# Altium schematic symbol library KAE01LAGT.SchLib: 1 symbol
Pins are listed as number, name and electrical type; pins without a type are passive.

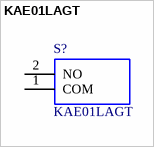
[diagram p0: symbol KAE01LAGT]

## KAE01LAGT
designator S?
DIP Switches / SIP Switches 1 Position Extended Splayed; Manufacturer_Name: E-Switch; Geometry.Height: 4.3mm; Manufacturer_Part_Number: KAE01LAGT; Mouser Part Number: 612-KAE01LAGT; Mouser Price/Stock: https://www.mouser.co.uk/ProductDetail/E-Switch/KAE01LAGT?qs=SzBv7bwNlX0qcv0wa6KvOw%3D%3D; Arrow Part Number: *; Arrow Price/Stock: *; Mouser Testing Part Number: *; Mouser Testing Price/Stock: *; Datasheet Link: http://spec_sheets.e-switch.com/specs/N800001.pdf
footprint KAE01LAGT
pins: 1 COM, 2 NO